# Altium footprint library IDC-10.PcbLib: 1 footprints
Each footprint in its own frame and in the unit in brackets; x right, y up, seen from the top. Pads: shape width x height; smd on the part's side, far side on the other; paste and mask are expansions set on the pad; w line width, h text height; cw(c..) or ccw(c..) is an arc to the next point about the centre after c.
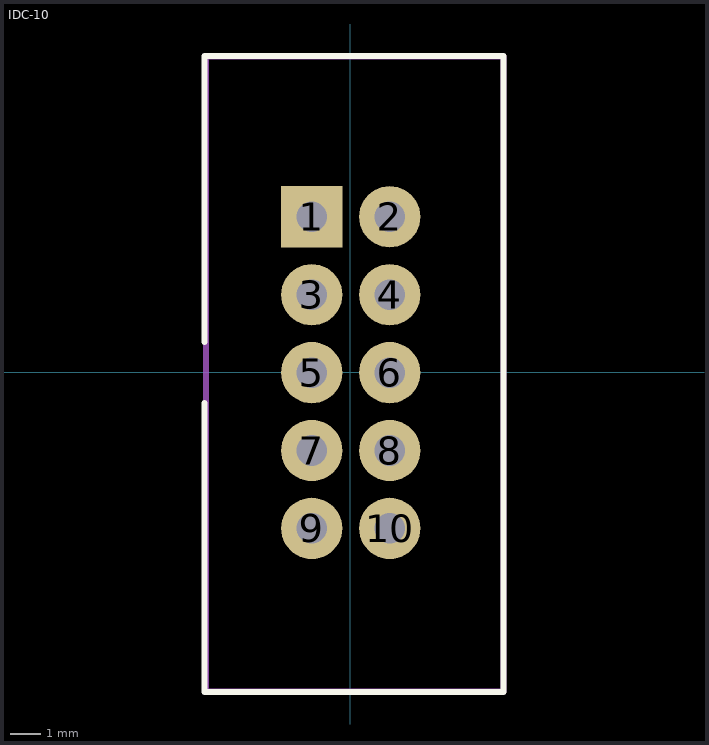
[diagram p0: the footprint, top view; thin cyan lines are the x and y axes]

## IDC-10 [mm] "IDC-10 Male Connector"
height 9
pads (10):
  rect 2x2 hole 1: 1(-1.25,5.075)
  round 2 hole 1: 2(1.29,5.075) 3(-1.25,2.535) 4(1.29,2.535) 5(-1.25,-0.005) 6(1.29,-0.005) 7(-1.25,-2.545) 8(1.29,-2.545) 9(-1.25,-5.085) 10(1.29,-5.085)
Top Overlay:
  lines w0.2: -4.75,-1 -4.75,-10.425 5,-10.425 5,10.325 -4.75,10.325 -4.75,1
Mechanical 4:
  lines w0.2: -4.7,-10.4 5,-10.4 5,10.3 -4.7,10.3 -4.7,-10.4
  text ".Designator" at -4.3,7.4 h2.15
3D body "User Library-BH-10__64BH-10.STEP": height 9.1, standoff -3, extent -4.53,-10.305 4.77,10.195